# Altium schematic symbol library MAX6675.SchLib: 1 symbol
Pins are listed as number, name and electrical type; pins without a type are passive.

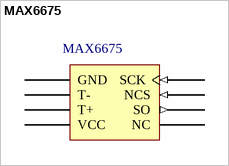
[diagram p0: symbol MAX6675]

## MAX6675
designator MAX6675  (value not drawn)
MAXIM 6675 SPI Thermocouple Amplifier
footprint SO8
pins: 1 GND (power), 2 T-, 3 T+, 4 VCC (power), 5 SCK (in), 6 NCS (in), 7 SO (out), 8 NC